# Altium schematic symbol library IMR_LIB_SCH_R2.SchLib: 146 symbols (part 1 of 2)
Pins are listed as number, name and electrical type; pins without a type are passive.

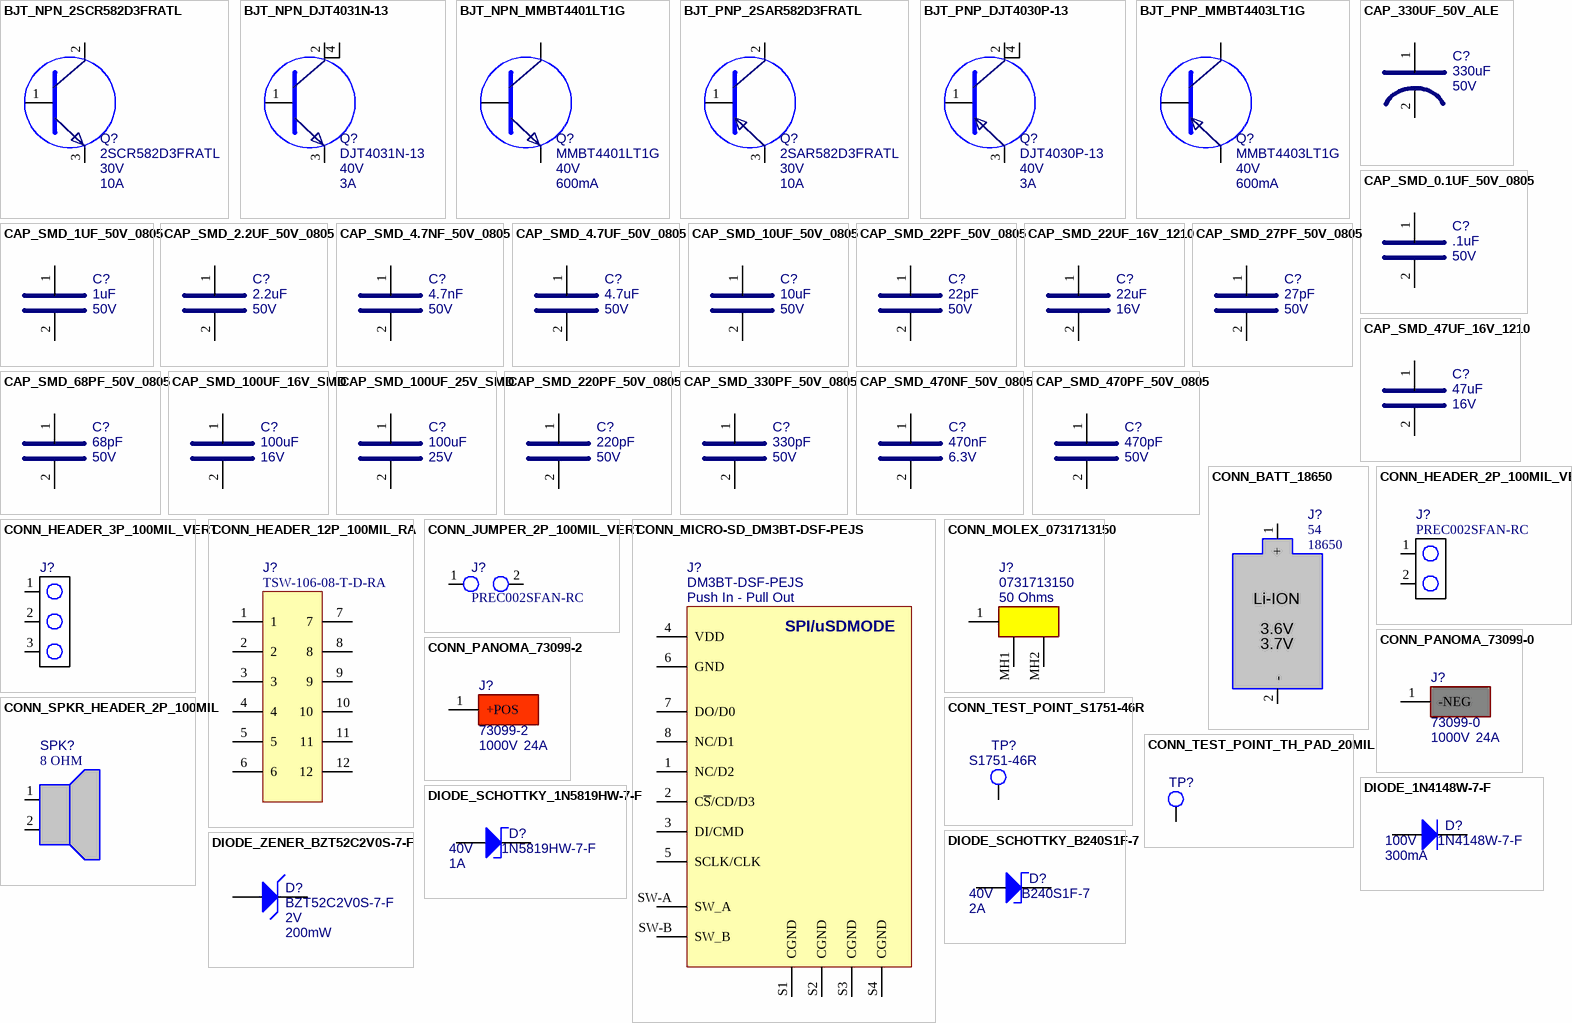
[diagram p0: symbols BJT_NPN_2SCR582D3FRATL to DIODE_ZENER_BZT52C2V0S-7-F]

## BJT_NPN_2SCR582D3FRATL
designator Q?, comment value 30V  Current: 10A  (hidden comment: 2SCR582D3FRATL)
TRANS NPN 30V 10A TO-252; MFG: Rohm Semiconductor; Case/Package: TO-252; Supplier 1: DigiKey; Supplier Part Number 1: 846-2SCR582D3FRATLCT-ND; Unit Price: 1.76; MFG_PN: 2SCR582D3FRATL
footprint TO-252 (TO-252, TO-252-3, DPAK)
pins: 1 B, 2 C, 3 E

## BJT_NPN_DJT4031N-13
designator Q?, comment value 40V  Current: 3A  (hidden comment: DJT4031N-13)
TRANS NPN 40V 3A SOT223; MFG: Diodes Inc; Case/Package: SOT223; Supplier 1: DigiKey; Supplier Part Number 1: DJT4031NDICT-ND; Unit Price: .76; MFG_PN: DJT4031N-13
footprint SOT223
pins: 1 B, 2 C, 3 E, 4 C

## BJT_NPN_MMBT4401LT1G
designator Q?, comment value 40V  Current: 600mA  (hidden comment: MMBT4401LT1G)
TRANS NPN 40V 0.6A SOT23-3; MFG: On Semiconductor; Case/Package: SOT-23; Supplier 1: DigiKey; Supplier Part Number 1: MMBT4401LT1GOSCT-ND; Unit Price: .13; MFG_PN: MMBT4401LT1G
footprint SOT-23 (SOT23-3)
pins: 1 B, 2 E, 3 C

## BJT_PNP_2SAR582D3FRATL
designator Q?, comment value 30V  Current: 10A  (hidden comment: 2SAR582D3FRATL)
TRANS PNP 30V 5.7A TO-252; MFG: Rohm Semiconductor; Case/Package: TO-252; Supplier 1: DigiKey; Supplier Part Number 1: 846-2SAR582D3FRATLCT-ND; Unit Price: 1.59; MFG_PN: 2SAR582D3FRATL
footprint TO-252 (TO-252, TO-252-3, DPAK)
pins: 1 B, 2 C, 3 E

## BJT_PNP_DJT4030P-13
designator Q?, comment value 40V  Current: 3A  (hidden comment: DJT4030P-13)
TRANS PNP 40V 3A SOT223; MFG: Diodes Inc; Case/Package: SOT-23; Supplier 1: DigiKey; Supplier Part Number 1: 31-DJT4030P-13CT-ND; Unit Price: .76; MFG_PN: DJT4030P-13
footprint SOT223
pins: 1 B, 2 C, 3 E, 4 C

## BJT_PNP_MMBT4403LT1G
designator Q?, comment value 40V  Current: 600mA  (hidden comment: MMBT4403LT1G)
TRANS PNP 40V 0.6A SOT23-3; MFG: On Semiconductor; Case/Package: SOT-23; Supplier 1: DigiKey; Supplier Part Number 1: MMBT4403LT1GOSCT-ND; Unit Price: .13; MFG_PN: MMBT4403LT1G
footprint SOT-23 (SOT23-3)
pins: 1 B, 2 E, 3 C

## CAP_330UF_50V_ALE
designator C?, comment value 330uF  Voltage: 50V  (hidden comment: Panasonic Electronic)
CAP ALE 330UF 20% 50V SMD; MFG: EEV-FK1H331Q; Case/Package: Radial SMD; MFG_PN: Panasonic Electronic; Supplier 1: DigiKey; Supplier Part Number 1: PCE3475CT-ND; Unit Price: 1.41
footprint PANASONIC_EEEFK0J332AQ (SMD 14.00mm Height)
pins: 1, 2

## CAP_SMD_0.1UF_50V_0805
designator C?, comment value .1uF  Voltage: 50V  (hidden comment: KGM21NR71H104KT)
CAP CER 0.1UF 50V X7R 0805; MFG: KYOCERA AVX; Case/Package: 0805; MFG_PN: KGM21NR71H104KT; Supplier 1: DigiKey; Supplier Part Number 1: 478-KGM21NR71H104KTCT-ND; Unit Price: .1
footprint CAP_0805
pins: 1, 2

## CAP_SMD_1UF_50V_0805
designator C?, comment value 1uF  Voltage: 50V  (hidden comment: 08055C105K4T2A)
CAP CER 1UF 50V X7R 0805; MFG: KYOCERA AVX; Case/Package: 0805; MFG_PN: 08055C105K4T2A; Supplier 1: DigiKey; Supplier Part Number 1: 478-KAM21KR71H105KUCT-ND; Unit Price: .27
footprint CAP_0805
pins: 1, 2

## CAP_SMD_2.2UF_50V_0805
designator C?, comment value 2.2uF  Voltage: 50V  (hidden comment: GRM219R61E225KA12J)
CAP CER 2.2UF 50V X5R 0805; MFG: Murata Electronics; Case/Package: 0805; MFG_PN: GRM219R61E225KA12J; Supplier 1: DigiKey; Supplier Part Number 1: 490-GRM219R61E225KA12JCT-ND; Unit Price: .38
footprint CAP_0805
pins: 1, 2

## CAP_SMD_4.7NF_50V_0805
designator C?, comment value 4.7nF  Voltage: 50V  (hidden comment: C0805C472K5RACAUTO)
CAP CER 4.7NF 50V X7R 0805; MFG: KEMET; Case/Package: 0805; MFG_PN: C0805C472K5RACAUTO; Supplier 1: DigiKey; Supplier Part Number 1: 399-6969-1-ND; Unit Price: .12
footprint CAP_0805
pins: 1, 2

## CAP_SMD_4.7UF_50V_0805
designator C?, comment value 4.7uF  Voltage: 50V  (hidden comment: GRM21BR61H475KE51L)
CAP CER 4.7UF 50V X5R 0805; MFG: Murata Electronics; Case/Package: 0805; MFG_PN: GRM21BR61H475KE51L; Supplier 1: DigiKey; Supplier Part Number 1: 490-10751-1-ND; Unit Price: .19
footprint CAP_0805
pins: 1, 2

## CAP_SMD_10UF_50V_0805
designator C?, comment value 10uF  Voltage: 50V  (hidden comment: GRM21BR61H106KE43L)
CAP CER 10UF 50V X5R 0805; MFG: Murata Electronics; Case/Package: 0805; MFG_PN: GRM21BR61H106KE43L; Supplier 1: DigiKey; Supplier Part Number 1: 490-18663-1-ND; Unit Price: .28
footprint CAP_0805
pins: 1, 2

## CAP_SMD_22PF_50V_0805
designator C?, comment value 22pF  Voltage: 50V  (hidden comment: C0805C220K5RACAUTO)
CAP CER 22PF 50V X7R 0805; MFG: KEMET; Case/Package: 0805; MFG_PN: C0805C220K5RACAUTO; Supplier 1: DigiKey; Supplier Part Number 1: 399-17627-1-ND; Unit Price: .24
footprint CAP_0805
pins: 1, 2

## CAP_SMD_22UF_16V_1210
designator C?, comment value 22uF  Voltage: 16V  (hidden comment: MSASE32MSB7226MPNB25)
CAP CER 22UF 16V X7R 1210; MFG: Taiyo Yuden; Case/Package: 1210; MFG_PN: MSASE32MSB7226MPNB25; Supplier 1: DigiKey; Supplier Part Number 1: 587-MSASE32MSB7226MPNB25CT-ND; Unit Price: .47
footprint CAP_1210 (CAP 1210)
pins: 1, 2

## CAP_SMD_27PF_50V_0805
designator C?, comment value 27pF  Voltage: 50V  (hidden comment: C0805C270J5GACTU)
CAP CER 27PF 50V C0G/NP0 0805; MFG: KEMET; Case/Package: 0805; MFG_PN: C0805C270J5GACTU; Supplier 1: DigiKey; Supplier Part Number 1: 399-C0805C270J5GACTUCT-ND; Unit Price: .11
footprint CAP_0805
pins: 1, 2

## CAP_SMD_47UF_16V_1210
designator C?, comment value 47uF  Voltage: 16V  (hidden comment: GRM32ER60J476ME20L)
CAP CER 47UF 50V X5R 1210; MFG: Murata Electronics; Case/Package: 1210; MFG_PN: GRM32ER60J476ME20L; Supplier 1: DigiKey; Supplier Part Number 1: 490-1887-1-ND; Unit Price: .28
footprint CAP_1210 (CAP 1210)
pins: 1, 2

## CAP_SMD_68PF_50V_0805
designator C?, comment value 68pF  Voltage: 50V  (hidden comment: C0805C680K5RACAUTO)
CAP CER 68PF 50V X7R 0805; MFG: KEMET; Case/Package: 0805; MFG_PN: C0805C680K5RACAUTO; Supplier 1: DigiKey; Supplier Part Number 1: 399-C0805C680K5RACAUTOCT-ND; Unit Price: .24
footprint CAP_0805
pins: 1, 2

## CAP_SMD_100UF_16V_SMD
designator C?, comment value 100uF  Voltage: 16V  (hidden comment: EMK325ABJ107MM-P)
CAP CER 100UF 16V X7S SMD; MFG: Taiyo Yuden; Case/Package: CAPC6153X670N; MFG_PN: EMK325ABJ107MM-P; Supplier 1: DigiKey; Supplier Part Number 1: 587-5426-1-ND; Unit Price: 1.92
footprint CAP_1210 (CAP 1210)
pins: 1, 2

## CAP_SMD_100UF_25V_SMD
designator C?, comment value 100uF  Voltage: 25V  (hidden comment: KCM55WC71E107MH13L)
CAP CER 100UF 25V X7S SMD; MFG: Murata Electronics; Case/Package: CAPC6153X670N; MFG_PN: KCM55WC71E107MH13L; Supplier 1: DigiKey; Supplier Part Number 1: 490-KCM55WC71E107MH13LCT-ND; Unit Price: 5.68
footprint CAPC6153X670N
pins: 1, 2

## CAP_SMD_220PF_50V_0805
designator C?, comment value 220pF  Voltage: 50V  (hidden comment: CC0805JRNPO9BN221)
CAP CER 220PF 50V COG/NP0 0805; MFG: Yageo; Type: COG, NP0; Tolerance: 5%; Case/Package: 0805; MFG_PN: CC0805JRNPO9BN221; Supplier 1: DigiKey; Supplier Part Number 1: 311-1115-1-ND; Unit Price: .11
footprint CAP_0805
pins: 1, 2

## CAP_SMD_330PF_50V_0805
designator C?, comment value 330pF  Voltage: 50V  (hidden comment: CC0805JRNPO9BN331)
CAP CER 3300PF 50V COG/NP0 0805; MFG: Yageo; Type: COG, NP0; Tolerance: 5%; Case/Package: 0805; MFG_PN: CC0805JRNPO9BN331; Supplier 1: DigiKey; Supplier Part Number 1: 311-1117-1-ND; Unit Price: .11
footprint CAP_0805
pins: 1, 2

## CAP_SMD_470NF_50V_0805
designator C?, comment value 470nF  Voltage: 6.3V  (hidden comment: GRM155R60J474KE19D)
CAP CER 0.47UF 6.3V X5R 0402; MFG: Murata Electronics; Case/Package: 0805; MFG_PN: GRM155R60J474KE19D; Supplier 1: DigiKey; Supplier Part Number 1: 490-3266-1-ND; Unit Price: .10
footprint CAP_0805
pins: 1, 2

## CAP_SMD_470PF_50V_0805
designator C?, comment value 470pF  Voltage: 50V  (hidden comment: CC0805JRNPO9BN471)
CAP CER 470PF 50V COG/NP0 0805; MFG: Yageo; Type: COG, NP0; Tolerance: 5%; Case/Package: 0805; MFG_PN: CC0805JRNPO9BN471; Supplier 1: DigiKey; Supplier Part Number 1: 311-1119-1-ND; Unit Price: .11
footprint CAP_0805
pins: 1, 2

## CONN_BATT_18650
designator J?, comment value 18650  (hidden comment: 54)
CONN HEADER VERT 2POS 2.54MM; MFG: Keystone Electronics; Note: This is actually 2 connectors on PCB - priced as such but BOM will reflect only one; Case/Package: 18650 SINGLE CELL; Supplier 1: Digi-Key; Supplier Part Number 1: 36-54-ND; Unit Price: 1.10; MFG_PN: 54
footprint CONN_BATTERY_18650 (BATTERY CONNECTOR 18650 MADE OF 2X KEYSTONE 54)
pins: 1 +, 2 -
text: Li-ION; 3.6V; 3.7V

## CONN_HEADER_2P_100MIL_VERT
designator J?, comment PREC002SFAN-RC
CONN HEADER VERT 2POS 2.54MM; MFG: Sullins Connector Solutions; Case/Package: 2P_2.54MM; Supplier 1: Digi-Key; Supplier Part Number 1: S1212EC-02-ND; Value: *; Unit Price: .07; MFG_PN: PREC002SFAN-RC
footprint HDR_1X2_100MILL (SINGLE ROW 2 PIN HDR 2.54MM)
pins: 1, 2

## CONN_HEADER_3P_100MIL_VERT
designator J?, comment PREC003SFAN-RC  (value not drawn)
CONN HEADER VERT 3POS 2.54MM; MFG: Sullins Connector Solutions; Case/Package: 2P_2.54MM; MFG_PN: PREC003SFAN-RC; Supplier 1: Digi-Key; Supplier Part Number 1: S1212EC-03-ND; Value: *; Unit Price: .07
footprint HDR_1X3_100MILL (SINGLE ROW 3 PIN HDR 2.54MM)
pins: 1, 2, 3

## CONN_HEADER_12P_100MIL_RA
designator J?, comment TSW-106-08-T-D-RA
CONN HEADER R/A 12POS 2.54MM; MFG: Samtec Inc.; Case/Package: 2P_2.54MM; Supplier 1: Digi-Key; Supplier Part Number 1: SAM1049-06-ND; Unit Price: .93; MFG_PN: TSW-106-08-T-D-RA
footprint SAMTEC_TSW-106-08-T-D-RA
pins: 1, 2, 3, 4, 5, 6, 7, 8, 9, 10, 11, 12

## CONN_JUMPER_2P_100MIL_VERT
designator J?, comment PREC002SFAN-RC
CONN HEADER VERT 2POS 2.54MM; MFG: Sullins Connector Solutions; Case/Package: 2P_2.54MM; MFG_PN: PREC002SFAN-RC; Supplier 1: Digi-Key; Supplier Part Number 1: S1212EC-02-ND; Value: *; Unit Price: .07
footprint HDR_1X2_100MILL (SINGLE ROW 2 PIN HDR 2.54MM)
pins: 1, 2

## CONN_MICRO-SD_DM3BT-DSF-PEJS
designator J?, comment value Push In - Pull Out  (hidden comment: DM3BT-DSF-PEJS)
CONN MICRO SD CARD R/A SMD; MFG: Hirose Electric Co Ltd; Case/Package: DM3BT-DSF-PEJS; Supplier 1: DigiKey; Supplier Part Number 1: HR1942CT-ND; Unit Price: 2.30; MFG_PN: DM3BT-DSF-PEJS
footprint HRS_DM3BT-DSF-PEJS (HIROSE_DM3BT-DSF-PEJS)
pins: 1 NC/D2, 2 C~{S}/CD/D3, 3 DI/CMD, 4 VDD, 5 SCLK/CLK, 6 GND, 7 DO/D0, 8 NC/D1, S1 CGND, S2 CGND, S3 CGND, S4 CGND, SW-A SW_A, SW-B SW_B
text: SPI/uSDMODE

## CONN_MOLEX_0731713150
designator J?, comment value 50 Ohms  (hidden comment: 0731713150)
CONN BNC RCPT R/A 50 OHM PCB; MFG: Molex; Case/Package: 73099-2; Supplier 1: DigiKey; Supplier Part Number 1: WM20430-ND; Unit Price: 1.40; MFG_PN: 0731713150
footprint 731713150
pins: 1, MH1, MH2

## CONN_PANOMA_73099-0
designator J?, comment value 1000V  Current: 24A  (hidden comment: 73099-0)
CONN 4mm Banana Socket Right Angle PCB BLK; MFG: Pomona; Case/Package: 73099-0; Supplier 1: DigiKey; Supplier Part Number 1: 501-73099-0-ND; Unit Price: 10.39; MFG_PN: 73099-0
footprint Pomona_73099-0 (Connector Black 4mm Banana Socket Right Angle)
pins: 1 -NEG

## CONN_PANOMA_73099-2
designator J?, comment value 1000V  Current: 24A  (hidden comment: 73099-2)
CONN 4mm Banana Socket Right Angle PCB RED; MFG: Pomona; Case/Package: 73099-2; Supplier 1: DigiKey; Supplier Part Number 1: 501-73099-2-ND; Unit Price: 10.39; MFG_PN: 73099-2
footprint Pomona_73099-2 (Connector Red 4mm Banana Socket Right Angle)
pins: 1 +POS

## CONN_SPKR_HEADER_2P_100MIL
designator SPK?, comment value 8 OHM  (hidden comment: TBD)
CONN SPEAKER HEADER GENERIC VERT 2POS 2.54MM; Case/Package: 2P_2.54MM; MFG: GENERIC; Supplier 1: Digi-Key; Supplier Part Number 1: TBD; Unit Price: 1.00; MFG_PN: TBD
footprint HDR_1X2_100MILL (SINGLE ROW 2 PIN HDR 2.54MM)
pins: 1, 2

## CONN_TEST_POINT_S1751-46R
designator TP?, comment S1751-46R
PCB TEST POINT CONNECT; MFG: Harwin Inc; Case/Package: S1751; Supplier 1: Digi-Key; Supplier Part Number 1: 952-1478-1-ND; Value: *; Unit Price: .28; MFG_PN: S1751-46R
footprint HARWIN_S1751 (TEST POINT)
pins: 1

## CONN_TEST_POINT_TH_PAD_20MIL
designator TP?  (no BOM)
TEST POINT TH 20MIL HOLE
footprint TEST_POINT_20MIL_TH (HOLE_40MIL PAD 20MIL HOLE)
pins: 1

## DIODE_1N4148W-7-F
designator D?, comment value 100V  Current: 300mA  (hidden comment: 1N4148W-7-F)
RELAY REED SPDT 250MA 5V; MFG: Diodes Inc; Case/Package: SOD-123; Supplier 1: DigiKey; Supplier Part Number 1: 1N4148W-FDICT-ND; Unit Price: .16; MFG_PN: 1N4148W-7-F
footprint SOD123
pins: 1 A, 2 K

## DIODE_SCHOTTKY_1N5819HW-7-F
designator D?, comment value 40V  Current: 1A  (hidden comment: 1N5819HW-7-F)
DIODE SCHOTTKY 40V 1A SOD123; MFG: Diodes Inc; Case/Package: SOD-123; Supplier 1: DigiKey; Supplier Part Number 1: 1N5819HW-FDICT-ND; Unit Price: .25; MFG_PN: 1N5819HW-7-F
footprint SOD123
pins: 1 A, 2 K

## DIODE_SCHOTTKY_B240S1F-7
designator D?, comment value 40V  Current: 2A  (hidden comment: B240S1F-7)
DIODE SCHOTTKY 40V 2A SOD123F; MFG: Diodes Inc; Case/Package: SOD-123F; Supplier 1: DigiKey; Supplier Part Number 1: B240S1F-7DICT-ND; Unit Price: .25; MFG_PN: B240S1F-7
footprint SOD123F
pins: 1 A, 2 K

## DIODE_ZENER_BZT52C2V0S-7-F
designator D?, comment value 2V  Power: 200mW  (hidden comment: BZT52C2V0S-7-F)
DIODE ZENER 2V 200MW SOD323; MFG: Diodes Inc; Case/Package: SOD-123; Supplier 1: DigiKey; Supplier Part Number 1: BZT52C2V0S-7FDICT-ND; Unit Price: .15; MFG_PN: BZT52C2V0S-7-F
footprint SOD323
pins: 1 A, 2 K

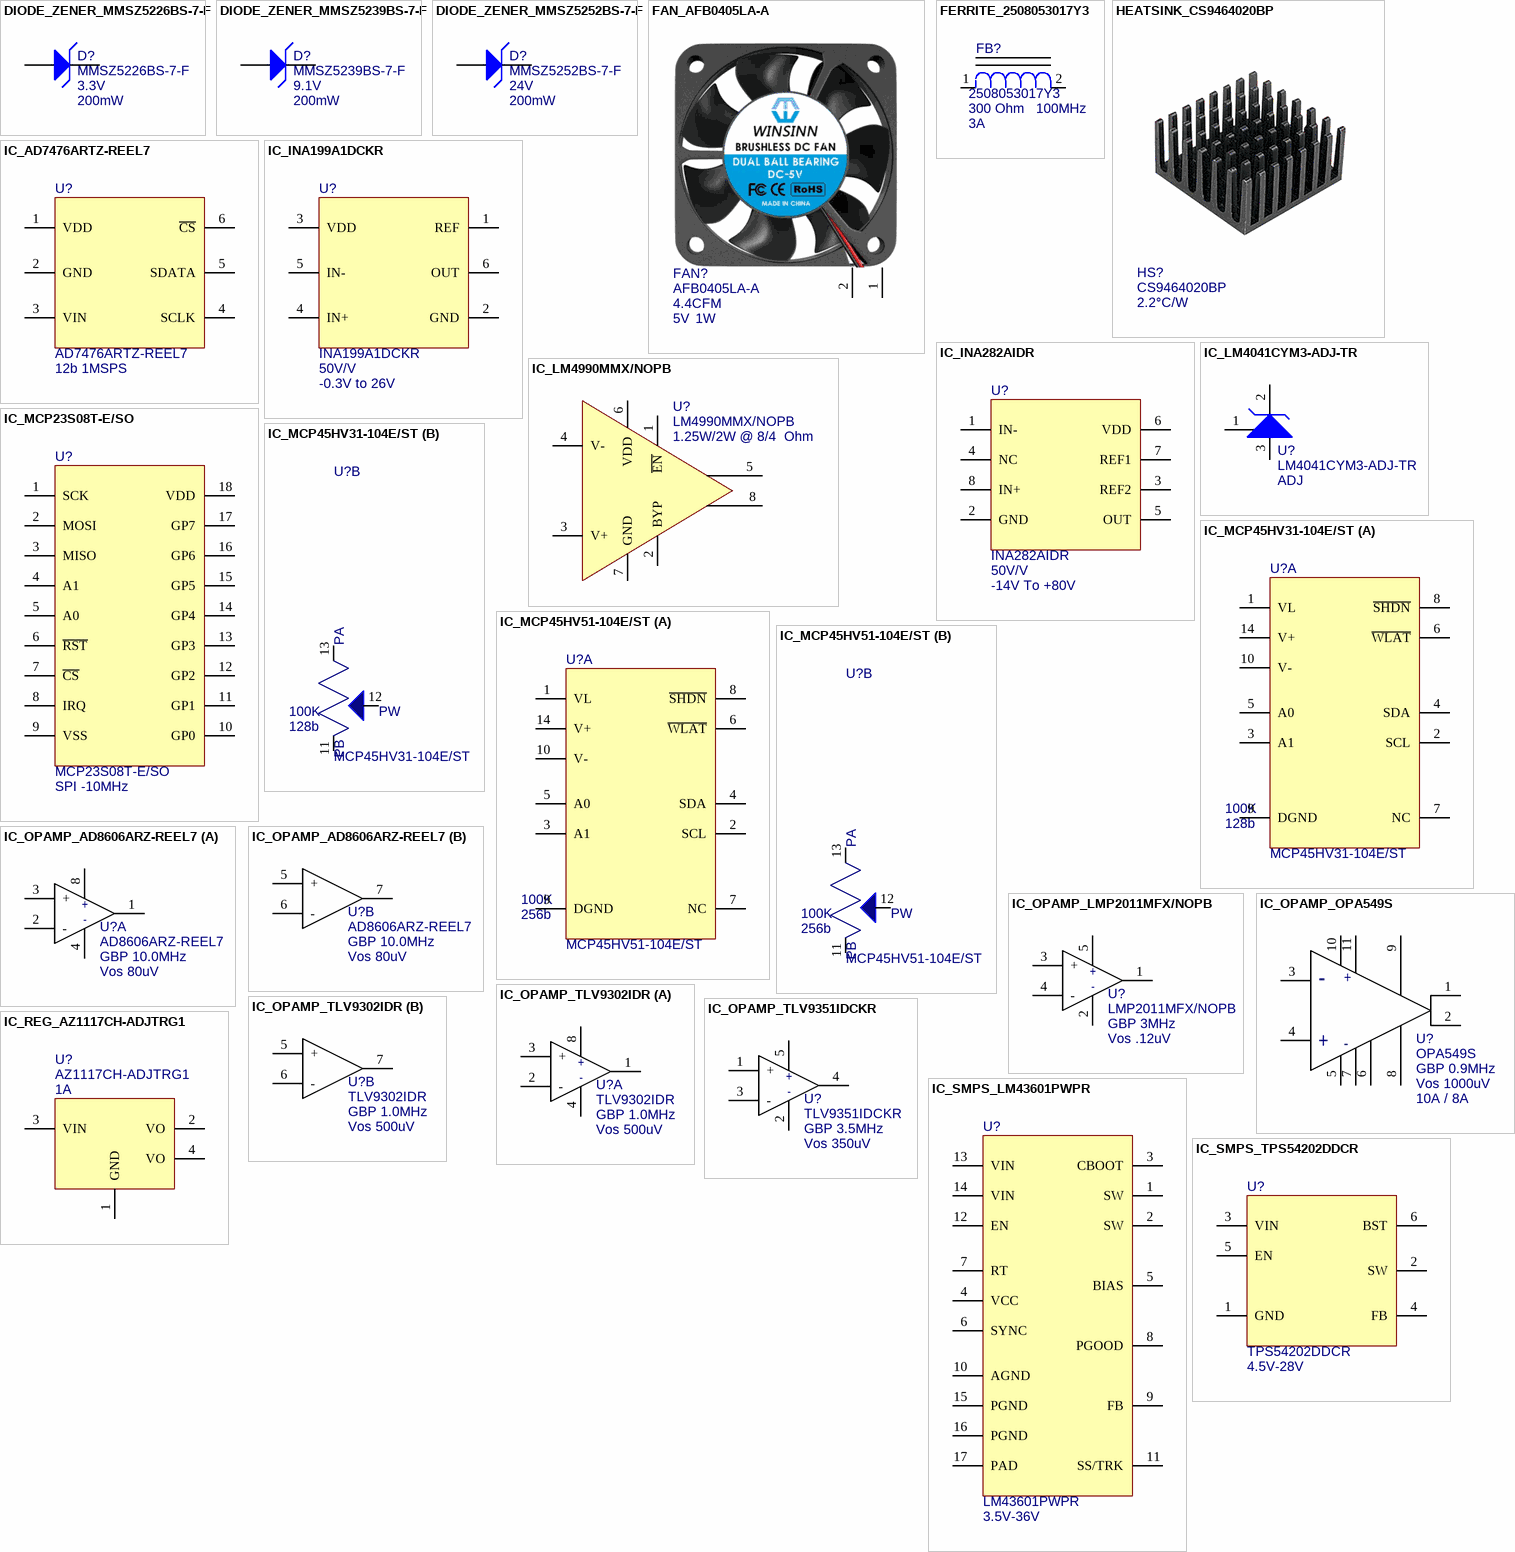
[diagram p1: symbols DIODE_ZENER_MMSZ5226BS-7-F to IC_SMPS_TPS54202DDCR]

## DIODE_ZENER_MMSZ5226BS-7-F
designator D?, comment value 3.3V  Power: 200mW  (hidden comment: MMSZ5226BS-7-F)
DIODE ZENER 3.3V 200MW SOD323; MFG: Diodes Inc; Case/Package: SOD-123; Supplier 1: DigiKey; Supplier Part Number 1: MMSZ5226BS-FDICT-ND; Unit Price: .15; MFG_PN: MMSZ5226BS-7-F
footprint SOD323
pins: 1 A, 2 K

## DIODE_ZENER_MMSZ5239BS-7-F
designator D?, comment value 9.1V  Power: 200mW  (hidden comment: MMSZ5239BS-7-F)
DIODE ZENER 9.1V 200MW SOD323; MFG: Diodes Inc; Case/Package: SOD-123; Supplier 1: DigiKey; Supplier Part Number 1: MMSZ5239BS-FDICT-ND; Unit Price: .18; MFG_PN: MMSZ5239BS-7-F
footprint SOD323
pins: 1 A, 2 K

## DIODE_ZENER_MMSZ5252BS-7-F
designator D?, comment value 24V  Power: 200mW  (hidden comment: MMSZ5252BS-7-F)
DIODE ZENER 24V 200MW SOD323; MFG: Diodes Inc; Case/Package: SOD-123; Supplier 1: DigiKey; Supplier Part Number 1: MMSZ5252BS-FDICT-ND; Unit Price: .12; MFG_PN: MMSZ5252BS-7-F
footprint SOD323
pins: 1 A, 2 K

## FAN_AFB0405LA-A
designator FAN?, comment Air Flow: 4.4CFM  Voltage: 5V  Power: 1W  (hidden comment: AFB0405LA-A)
FAN AXIAL 40X10MM BALL 5VDC WIRE; MFG: Delta Electronicis; Case/Package: 40x40x10mm; Supplier 1: DigiKey; Supplier Part Number 1: 603-2014-ND; Unit Price: 7.31; MFG_PN: AFB0405LA-A
footprint FAN_AFB0405LA-A (DELTA ELECTRONICS FAN PN: AFB0405LA-A)
pins: 1, 2

## FERRITE_2508053017Y3
designator FB?, comment value 300 Ohm  Frequency: 100MHz  Current: 3A  (hidden comment: 2508053017Y3)
FERRITE BEAD 300 OHM 0805 1LN; MFG: Fair-Rite; Case/Package: 0805; Supplier 1: DigiKey; Supplier Part Number 1: 1934-1474-1-ND; Unit Price: .10; MFG_PN: 2508053017Y3
footprint FERRITE_0805
pins: 1, 2

## HEATSINK_CS9464020BP
designator HS?, comment Thermal Resistance: 2.2°C/W  (hidden comment: CS9464020BP)
Heat Sink Aluminum Top Mount; MFG: Cooling Source; Case/Package: 40x40x20mm; Supplier 1: DigiKey; Supplier Part Number 1: 4165-CS9464020BP-ND; Unit Price: 3.41; MFG_PN: CS9464020BP
footprint HEATSINK_CS9464020BP (COOLING SOURCE HEAT SINK PN: CS9464020BP)

## IC_AD7476ARTZ-REEL7
designator U?, comment value 12b 1MSPS  (hidden comment: AD7476ARTZ-REEL7)
IC ADC 12BIT SAR SOT23-6; MFG: Analog Devices; Case/Package: SOT-23-6; Supplier 1: DigiKey; Supplier Part Number 1: AD7476ARTZ-REEL7CT-ND; Unit Price: 12.02; MFG_PN: AD7476ARTZ-REEL7
footprint SOT-23-6 (SOT-23-6 AKA TSOT-23-6)
pins: 1 VDD, 2 GND, 3 VIN, 4 SCLK, 5 SDATA, 6 ~{CS}

## IC_INA199A1DCKR
designator U?, comment value 50V/V  Common Mode: -0.3V to 26V  (hidden comment: INA199A1DCKR)
IC CURRENT SENSE 1.5% 50V/V SC70-6; MFG: Texas Instruments; Case/Package: SC-70-6; Supplier 1: DigiKey; Supplier Part Number 1: 296-27329-1-ND; Unit Price: .45; MFG_PN: INA199A1DCKR
footprint SC-70-6 (6-TSSOP, SC-88, SOT-363)
pins: 1 REF, 2 GND, 3 VDD, 4 IN+, 5 IN-, 6 OUT

## IC_INA282AIDR
designator U?, comment value 50V/V  Common Mode: -14V To +80V  (hidden comment: INA282AIDR)
IC CURRENT SENSE 0.4% 50V/V SOIC-8; MFG: Texas Instruments; Case/Package: SOIC-8; Supplier 1: DigiKey; Supplier Part Number 1: 296-27820-1-ND; Unit Price: 4.13; MFG_PN: INA282AIDR
footprint SOIC-8_54 (SOIC 8 PIN IC 5.4mm PIN TO PIN WIDTH)
pins: 1 IN-, 2 GND, 3 REF2, 4 NC, 5 OUT, 6 VDD, 7 REF1, 8 IN+

## IC_LM4041CYM3-ADJ-TR
designator U?, comment value ADJ  (hidden comment: LM4041CYM3-ADJ-TR)
IC VREF SHUNT ADJ 0.5% SOT23-3; MFG: Microchip; Case/Package: SOT-23; Supplier 1: DigiKey; Supplier Part Number 1: 576-1049-1-ND; Unit Price: .39; MFG_PN: LM4041CYM3-ADJ-TR
footprint SOT-23 (SOT23-3)
pins: 1 FB, 2 K, 3 A

## IC_LM4990MMX/NOPB
designator U?, comment value 1.25W/2W @ 8/4  Ohm  (hidden comment: LM4990MMX/NOPB)
IC AMP CLASS AB MONO 2W 8VSSOP; MFG: Texas Instruments; Case/Package: SC-70-6; Supplier 1: DigiKey; Supplier Part Number 1: 296-37579-1-ND; Unit Price: .45; MFG_PN: LM4990MMX/NOPB
footprint SOP65P490X110-8N (VSSOP-8)
pins: 1 ~{EN}, 2 BYP, 3 V+, 4 V-, 5 VO1, 6 VDD, 7 GND, 8 VO2

## IC_MCP23S08T-E/SO
designator U?, comment value SPI -10MHz  (hidden comment: MCP23S08T-E/SO)
IC IO XPNDR 10MHZ SPI 18SOIC; MFG: Microchip; Case/Package: SOIC-18-300; Supplier 1: DigiKey; Supplier Part Number 1: MCP23S08T-E/SOCT-ND; Unit Price: 1.54; MFG_PN: MCP23S08T-E/SO
footprint SOIC-18_300 (SOIC 18P 300MIL BODY WIDTH)
pins: 1 SCK, 2 MOSI, 3 MISO, 4 A1, 5 A0, 6 ~{RST}, 7 ~{CS}, 8 IRQ, 9 VSS, 10 GP0, 11 GP1, 12 GP2, 13 GP3, 14 GP4, 15 GP5, 16 GP6, 17 GP7, 18 VDD

## IC_MCP45HV31-104E/ST
designator U?, comment value 100K  TAP: 128b  (hidden comment: MCP45HV31-104E/ST)
IC DGT POT 100KOHM 128TP 14TSSOP; MFG: Microchip; Case/Package: TSSOP-14; Supplier 1: DigiKey; Supplier Part Number 1: MCP45HV31-104E/ST-ND; Unit Price: 1.82; MFG_PN: MCP45HV31-104E/ST
footprint TSSOP-14
part A pins: 1 VL, 2 SCL, 3 A1, 4 SDA, 5 A0, 6 ~{WLAT}, 7 NC, 8 ~{SHDN}, 9 DGND, 10 V-, 14 V+
part B pins: 11 PB0, 12 PW0, 13 PA
part B text: PW; PB

## IC_MCP45HV51-104E/ST
designator U?, comment value 100K  TAP: 256b  (hidden comment: MCP45HV51-104E/ST)
IC DGT POT 100KOHM 256TP 14TSSOP; MFG: Microchip; Case/Package: TSSOP-14; Supplier 1: DigiKey; Supplier Part Number 1: MCP45HV51-104E/ST-ND; Unit Price: 2.00; MFG_PN: MCP45HV51-104E/ST
footprint TSSOP-14
part A pins: 1 VL, 2 SCL, 3 A1, 4 SDA, 5 A0, 6 ~{WLAT}, 7 NC, 8 ~{SHDN}, 9 DGND, 10 V-, 14 V+
part B pins: 11 PB0, 12 PW0, 13 PA
part B text: PW; PB

## IC_OPAMP_AD8606ARZ-REEL7
designator U?, comment value GBP 10.0MHz  Vos: Vos 80uV  (hidden comment: AD8606ARZ-REEL7)
IC OPAMP GP 2 CIRCUIT 8SOIC; MFG: Analog Devices; Unit Price: 4.94; Package/Case: SOIC-8; Supplier 1: DigiKey; Supplier Part Number 1: AD8606ARZ-REEL7CT-ND; MFG_PN: AD8606ARZ-REEL7
footprint SOIC-8_54 (SOIC 8 PIN IC 5.4mm PIN TO PIN WIDTH)
part A pins: 1, 2 -, 3 +, 4, 8
part B pins: 5 +, 6 -, 7

## IC_OPAMP_LMP2011MFX/NOPB
designator U?, comment value GBP 3MHz  Vos: Vos .12uV  (hidden comment: LMP2011MFX/NOPB)
IC OPAMP GP 3MHZ .12uV CIRCUIT SOT23-5; MFG: Texas Instruments; Unit Price: 2.33; Package/Case: SOT-23-5; Supplier 1: DigiKey; Supplier Part Number 1: LMP2011MFX/NOPBCT-ND; MFG_PN: LMP2011MFX/NOPB
footprint SOT-23-5 (AKA SC-74A, SOT-753)
pins: 1, 2, 3 +, 4 -, 5

## IC_OPAMP_OPA549S
designator U?, comment value GBP 0.9MHz  Vos: Vos 1000uV  Peak / Contineous Current: 10A / 8A  (hidden comment: OPA549S)
IC OPAMP POWER 1 CIRC 11PWRPACK; MFG: Texas Instruments; Unit Price: 26.94; Package/Case: Power Package-11; Supplier 1: DigiKey; Supplier Part Number 1: OPA549S-ND; MFG_PN: OPA549S
footprint POWER_PACKAGE_11 (TI OPA549S Power Package-11)
pins: 1, 2, 3 -, 4 +, 5, 6, 7, 8, 9, 10, 11

## IC_OPAMP_TLV9302IDR
designator U?, comment value GBP 1.0MHz  Vos: Vos 500uV  (hidden comment: TLV9302IDR)
IC OPAMP GP 2 CIRCUIT 8SOIC; MFG: Texas Instruments; Unit Price: .66; Package/Case: SOIC-8; Supplier 1: DigiKey; Supplier Part Number 1: 296-53513-1-ND; MFG_PN: TLV9302IDR
footprint SOIC-8_49 (SOIC 8 PIN IC 4.9mm PIN TO PIN WIDTH)
part A pins: 1, 2 -, 3 +, 4, 8
part B pins: 5 +, 6 -, 7

## IC_OPAMP_TLV9351IDCKR
designator U?, comment value GBP 3.5MHz  Vos: Vos 350uV  (hidden comment: TLV9351IDCKR)
IC OPAMP GP 3.5MHZ 350uV C70-5; MFG: Texas Instruments; Unit Price: .49; Package/Case: SOT-353; Supplier 1: DigiKey; Supplier Part Number 1: 296-TLV9351IDCKRCT-ND; MFG_PN: TLV9351IDCKR
footprint SOT-353 (AKA SC-70-5, 5-TSSOP)
pins: 1 +, 2, 3 -, 4, 5

## IC_REG_AZ1117CH-ADJTRG1
designator U?, comment Current: 1A  (hidden comment: AZ1117CH-ADJTRG1)
IC REG BUCK ADJ 2A SOT23; MFG: Diodes Incorporated; Case/Package: SOT-223-3; Supplier 1: DigiKey; Supplier Part Number 1: AZ1117CH-ADJTRG1DICT-ND; Unit Price: .2; VALUE: ADJ; MFG_PN: AZ1117CH-ADJTRG1
footprint SOT223
pins: 1 GND, 2 VO, 3 VIN, 4 VO

## IC_SMPS_LM43601PWPR
designator U?, comment value 3.5V-36V  (hidden comment: LM43601PWPR)
IC REG BUCK ADJ 1A 16HTSSOP; MFG: Texas Instruments; Case/Package: 16HTSSOP; Supplier 1: DigiKey; Supplier Part Number 1: 296-40221-1-ND; Unit Price: 4.41; Current: 1A; MFG_PN: LM43601PWPR
footprint SOP65P640X120-17N
pins: 1 SW, 2 SW, 3 CBOOT, 4 VCC, 5 BIAS, 6 SYNC, 7 RT, 8 PGOOD, 9 FB, 10 AGND, 11 SS/TRK, 12 EN, 13 VIN, 14 VIN, 15 PGND, 16 PGND, 17 PAD

## IC_SMPS_TPS54202DDCR
designator U?, comment value 4.5V-28V  (hidden comment: TPS54202DDCR)
IC REG BUCK ADJ 2A SOT23; MFG: Texas Instruments; Case/Package: SOT23-6; Supplier 1: DigiKey; Supplier Part Number 1: 296-TPS54202DDCRCT-ND; Unit Price: .97; Current: 2A; MFG_PN: TPS54202DDCR
footprint SOT-23-6 (SOT-23-6 AKA TSOT-23-6)
pins: 1 GND, 2 SW, 3 VIN, 4 FB, 5 EN, 6 BST

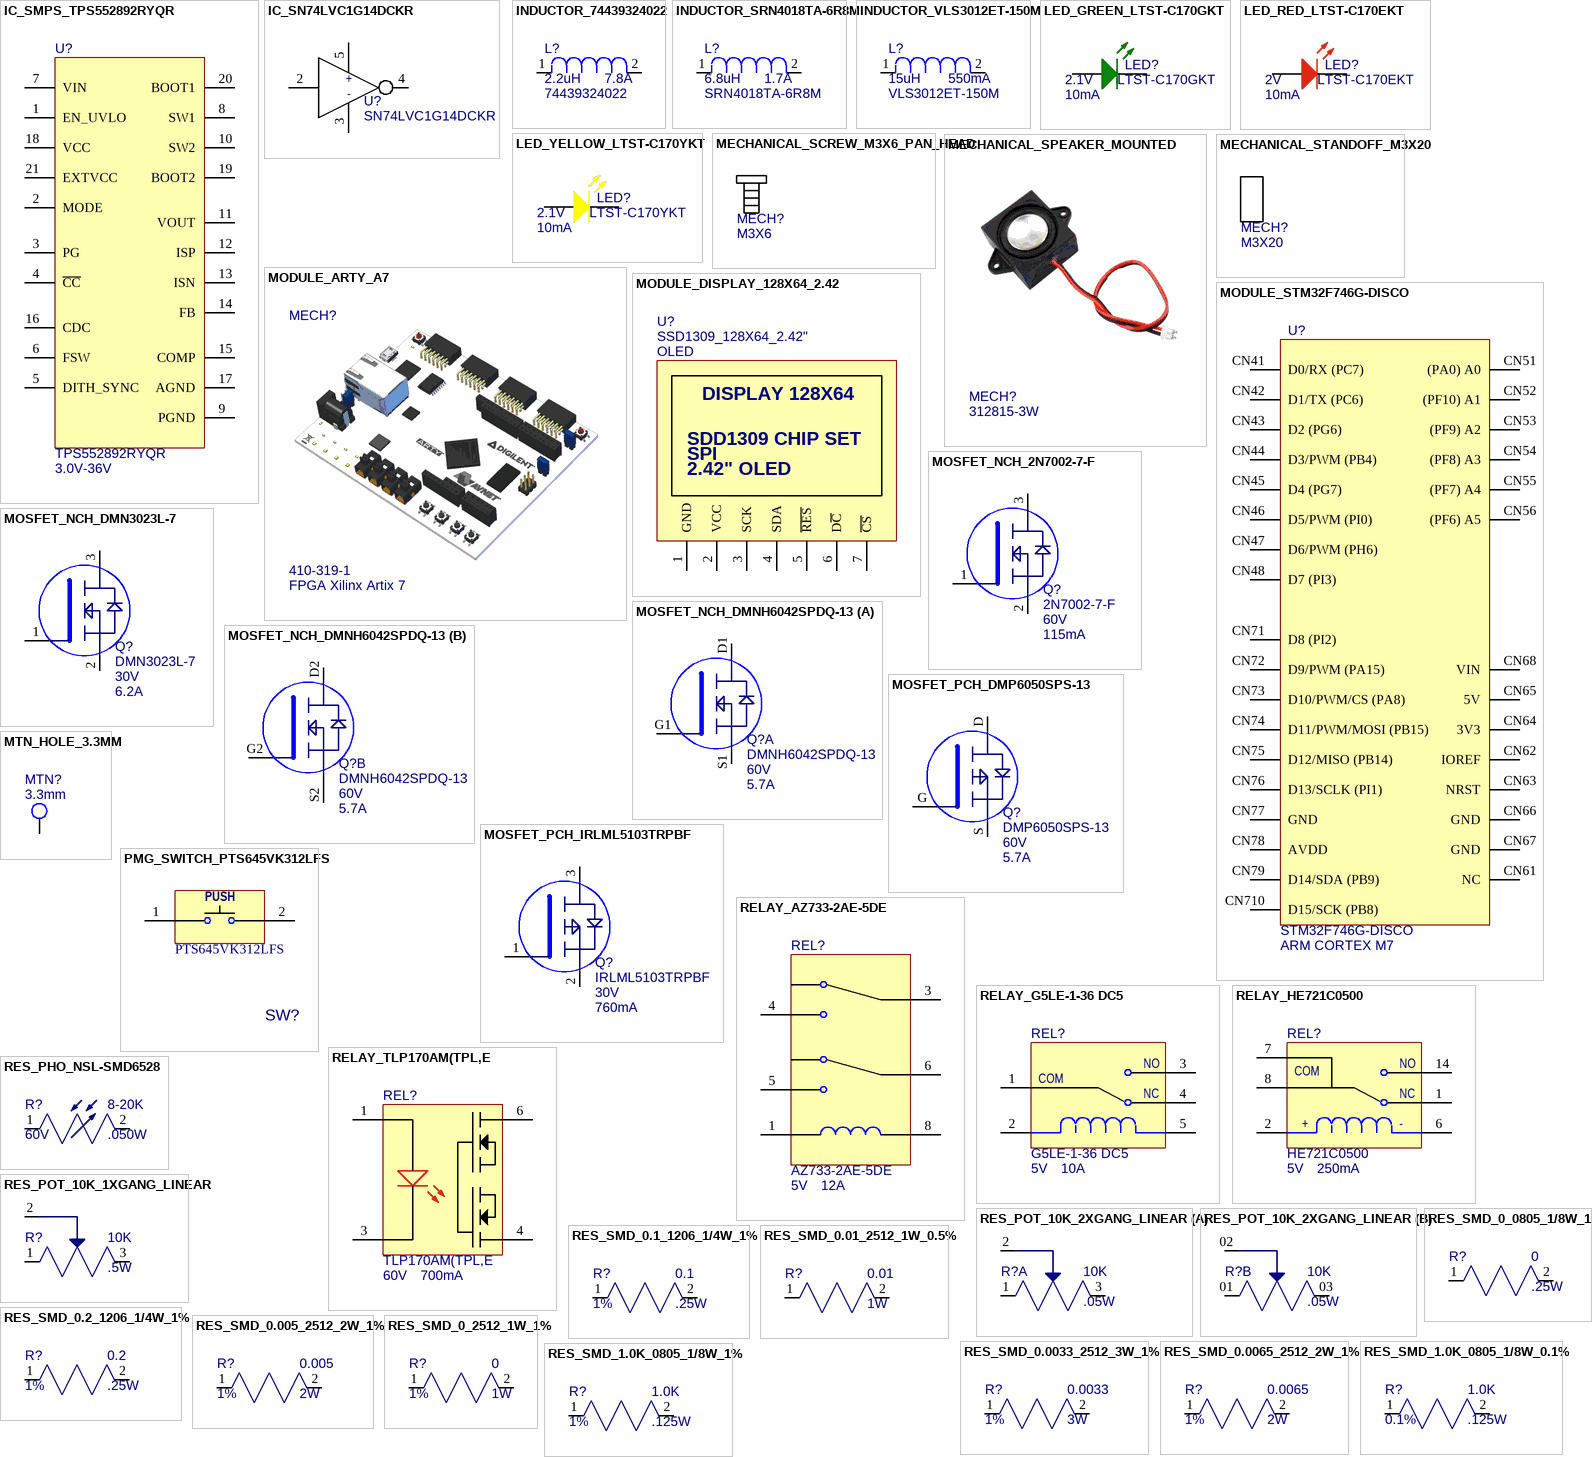
[diagram p2: symbols IC_SMPS_TPS552892RYQR to RES_SMD_1.0K_0805_1/8W_1%]

## IC_SMPS_TPS552892RYQR
designator U?, comment value 3.0V-36V  (hidden comment: TPS552892RYQR)
IC REG BUCK ADJ 1A 16HTSSOP; MFG: Texas Instruments; Current: 8A; Case/Package: VQFN; Supplier 1: DigiKey; Supplier Part Number 1: 296-TPS552892RYQRCT-ND; Unit Price: 6.42; MFG_PN: TPS552892RYQR
footprint CONV_TPS552892RYQR
pins: 1 EN_UVLO, 2 MODE, 3 PG, 4 ~{CC}, 5 DITH_SYNC, 6 FSW, 7 VIN, 8 SW1, 9 PGND, 10 SW2, 11 VOUT, 12 ISP, 13 ISN, 14 FB, 15 COMP, 16 CDC, 17 AGND, 18 VCC, 19 BOOT2, 20 BOOT1, 21 EXTVCC

## IC_SN74LVC1G14DCKR
designator U?, comment SN74LVC1G14DCKR
IC INVERT SCHMITT 1CH 1IN SC70-5; MFG: Texas Instruments; Unit Price: .10; Package/Case: SC70-5; Supplier 1: DigiKey; Supplier Part Number 1: 296-11608-1-ND; MFG_PN: SN74LVC1G14DCKR
footprint SOT-353 (AKA SC-70-5, 5-TSSOP)
pins: 2 A, 3, 4 Y, 5
text: +; -

## INDUCTOR_74439324022
designator L?, comment value 2.2uH  Current: 7.8A  (hidden comment: 74439324022)
POWER INDUCTOR 4030; 2.2UH; 7.80; MFG: Würth Elektronik; Tolerance: 20%; Case/Package: WE-XHMI; Supplier 1: DigiKey; Supplier Part Number 1: 732-74439324022CT-ND; Unit Price: 1.80; MFG_PN: 74439324022
footprint WE-XHMI_4030
pins: 1, 2

## INDUCTOR_SRN4018TA-6R8M
designator L?, comment value 6.8uH  Current: 1.7A  (hidden comment: SRN4018TA-6R8M)
FIXED IND 6.8UH 1.7A 98 MOHM SMD; MFG: Bourns Inc.; Tolerance: 20%; Case/Package: SRN4018TA; Supplier 1: DigiKey; Supplier Part Number 1: SRN4018TA-6R8MCT-ND; Unit Price: .48; MFG_PN: SRN4018TA-6R8M
footprint SRN4018TA (BOURNS SERIES SRN4018TA-6R8M)
pins: 1, 2

## INDUCTOR_VLS3012ET-150M
designator L?, comment value 15uH  Current: 550mA  (hidden comment: VLS3012ET-150M)
FIXED IND 15UH 550MA 516MOHM SMD; MFG: TDK Corporation; Tolerance: 20%; Case/Package: SRN4018TA; Supplier 1: DigiKey; Supplier Part Number 1: 445-6660-1-ND; Unit Price: .26; MFG_PN: VLS3012ET-150M
footprint IND_VLS3012ET-150M
pins: 1, 2

## LED_GREEN_LTST-C170GKT
designator LED?, comment value 2.1V  Current: 10mA  (hidden comment: LTST-C170GKT)
LED GREEN CLEAR SMD; MFG: Lite-On; Case/Package: 0805; Supplier 1: DigiKey; Supplier Part Number 1: 160-1179-1-ND; Unit Price: .10; MFG_PN: LTST-C170GKT
footprint LED_0805 (LED 0805)
pins: A, K

## LED_RED_LTST-C170EKT
designator LED?, comment value 2V  Current: 10mA  (hidden comment: LTST-C170EKT)
LED RED CLEAR SMD; MFG: Lite-On; Case/Package: 0805; Supplier 1: DigiKey; Supplier Part Number 1: 160-1178-1-ND; Unit Price: .18; MFG_PN: LTST-C170EKT
footprint LED_0805 (LED 0805)
pins: A, K

## LED_YELLOW_LTST-C170YKT
designator LED?, comment value 2.1V  Current: 10mA  (hidden comment: LTST-C170YKT)
LED YELLOW CLEAR SMD; MFG: Lite-On; Case/Package: 0805; Supplier 1: DigiKey; Supplier Part Number 1: 160-1175-1-ND; Unit Price: .15; MFG_PN: LTST-C170YKT
footprint LED_0805 (LED 0805)
pins: A, K

## MECHANICAL_SCREW_M3X6_PAN_HEAD
designator MECH?, comment Size: M3X6  (hidden comment: RM3X6MM 2701)
SCREW M3X6 PAN HEAD SS; MFG: APM Hexseal; Case/Package: SCREW_M3X6; Supplier 1: DigiKey; Supplier Part Number 1: 335-1156-ND; Unit Price: .58; MFG_PN: RM3X6MM 2701
footprint MECHANICAL_SCREW_M3X6 (M3X6 PAN HEAD SCREW - WIDTH 5.5mm)

## MECHANICAL_SPEAKER_MOUNTED
designator MECH?, comment 312815-3W
SPEAKER PANEL MOUNT; MFG: ARDUINO; Case/Package: 312815-3W_PCB; Supplier 1: ARDUINO; Supplier Part Number 1: 312815-3W; Unit Price: 2.50; MFG_PN: 312815-3W
footprint Model Name (Footprint not found)
footprint 312815-3W_PCB (Speaker Mounted (31x28x15)MM)

## MECHANICAL_STANDOFF_M3X20
designator MECH?, comment Size: M3X20  (hidden comment: 24407)
HEX STANDOFF M3 BRASS 20MM; MFG: Keystone Electronics; Case/Package: STANDOFF_M3X20; Supplier 1: DigiKey; Supplier Part Number 1: 36-24407-ND; Unit Price: 1.36; MFG_PN: 24407
footprint MECHANICAL_SPACER_F_F_M3X20 (M3X20 SPACER FEMALE TO FEMALE MAX WIDTH 5.2mm)

## MODULE_ARTY_A7
designator MECH?, comment value FPGA Xilinx Artix 7  (hidden comment: 410-319-1)
DEVELOPMENT BOARD FPGA XILINX A7; MFG: Digilent, Inc.; Case/Package: NA; Supplier 1: DigiKey; Supplier Part Number 1: 1286-1206-ND; Unit Price: 299.00; MFG_PN: 410-319-1
footprint ARTY_A7_DEV_BOARD (Digilent Arty A7 Development Board)

## MODULE_DISPLAY_128X64_2.42
designator U?, comment TYPE: OLED  (hidden comment: SSD1309_128X64_2.42")
DISPLAY 128X64 SSD1309 2.42" OLED WHITE; MFG: UNKNOWN; NOTES: This display is sold by several companies on Amazon - you can identify it by description and the back of the PCB - sellers: HiLetgo, Aceirmc; Case/Package: MODULE_DISPLAY_128X64_2.42; Supplier 1: Amazon; Supplier Part Number 1: SSD1309 2.42"; Unit Price: 16.99; Resolution: 128X64; MFG_PN: SSD1309_128X64_2.42"
footprint MODULE_DISPLAY_128X64_2.42 (DISPLAY)
pins: 1 GND, 2 VCC, 3 SCK, 4 SDA, 5 ~{RES}, 6 D~{C}, 7 ~{CS}
text: DISPLAY 128X64; SDD1309 CHIP SET; SPI; 2.42" OLED

## MODULE_STM32F746G-DISCO
designator U?, comment value ARM CORTEX M7  (hidden comment: STM32F746G-DISCO)
DISCOVERY STM32 F7 EVAL BRD; MFG: ST Microlectronics; Current: 2A; Case/Package: STM32F746G-DISCO; Supplier 1: DigiKey; Supplier Part Number 1: 497-15680-5-ND; Unit Price: 57.50; MFG_PN: STM32F746G-DISCO
footprint STM32F746G-DISCO (STM32F746G-DISCO MODULE)
pins: CN41 D0/RX (PC7), CN42 D1/TX (PC6), CN43 D2 (PG6), CN44 D3/PWM (PB4), CN45 D4 (PG7), CN46 D5/PWM (PI0), CN47 D6/PWM (PH6), CN48 D7 (PI3), CN51 (PA0) A0, CN52 (PF10) A1, CN53 (PF9) A2, CN54 (PF8) A3, CN55 (PF7) A4, CN56 (PF6) A5, CN61 NC, CN62 IOREF, CN63 NRST, CN64 3V3, CN65 5V, CN66 GND, CN67 GND, CN68 VIN, CN71 D8 (PI2), CN72 D9/PWM (PA15), CN73 D10/PWM/CS (PA8), CN74 D11/PWM/MOSI (PB15), CN75 D12/MISO (PB14), CN76 D13/SCLK (PI1), CN77 GND, CN78 AVDD, CN79 D14/SDA (PB9), CN710 D15/SCK (PB8)

## MOSFET_NCH_2N7002-7-F
designator Q?, comment value 60V  Current: 115mA  (hidden comment: 2N7002-7-F)
MOSFET N-CH 60V 115MA SOT23-3; MFG: Diodes Inc; Case/Package: SOT-23; Supplier 1: DigiKey; Supplier Part Number 1: 2N7002-FDICT-ND; Unit Price: .20; MFG_PN: 2N7002-7-F
footprint SOT-23 (SOT23-3)
pins: 1 B, 2 E, 3 C

## MOSFET_NCH_DMN3023L-7
designator Q?, comment value 30V  Current: 6.2A  (hidden comment: DMN3023L-7)
MOSFET N-CH 30V 6.2A SOT23-3; MFG: Diodes Inc; Case/Package: SOT-23; Supplier 1: DigiKey; Supplier Part Number 1: DMN3023L-7DICT-ND; Unit Price: .48; MFG_PN: DMN3023L-7
footprint SOT-23 (SOT23-3)
pins: 1 B, 2 E, 3 C

## MOSFET_NCH_DMNH6042SPDQ-13
designator Q?, comment value 60V  Current: 5.7A  (hidden comment: DMNH6042SPDQ-13)
MOSFET NCH 60V 5.7A POWERDI; MFG: Diodes Inc; Case/Package: 8-PowerTDFN; Supplier 1: DigiKey; Supplier Part Number 1: DMNH6042SPDQ-13DICT-ND; Unit Price: 1.36; MFG_PN: DMNH6042SPDQ-13
footprint TRANS_DMP2002UPS-13
part A pins: D1 D, G1 G, S1 S
part B pins: D2 D, G2, S2 S

## MOSFET_PCH_DMP6050SPS-13
designator Q?, comment value 60V  Current: 5.7A  (hidden comment: DMP6050SPS-13)
MOSFET P-CH 60V 5.7A PWRDI5060-8; MFG: Diodes Inc; Case/Package: 8-PowerTDFN; Supplier 1: DigiKey; Supplier Part Number 1: DMP6050SPS-13DICT-ND; Unit Price: 1.07; MFG_PN: DMP6050SPS-13
footprint DMP3007SPS13
pins: D, G, S

## MOSFET_PCH_IRLML5103TRPBF
designator Q?, comment value 30V  Current: 760mA  (hidden comment: IRLML5103TRPBF)
MOSFET P-CH 30V 760MA SOT23; MFG: Infineon Technologies; Case/Package: 8-PowerTDFN; Supplier 1: DigiKey; Supplier Part Number 1: IRLML5103PBFCT-ND; Unit Price: .45; MFG_PN: IRLML5103TRPBF
footprint SOT-23 (SOT23-3)
pins: 1 G, 2 S, 3 D

## MTN_HOLE_3.3MM
designator MTN?  Hole Size: 3.3mm  (no BOM)
MOUNTING HOLE 3.3MM
footprint PMG_MT_HOLE_3.3MM (3.3MM IN D)
pins: 1

## PMG_SWITCH_PTS645VK312LFS
designator SW?, comment PTS645VK312LFS
SWITCH TACTILE SPST-NO 0.05A 12V; MFG: C&K; Case/Package: PTS645; Supplier 1: Digi-Key; Supplier Part Number 1: CKN10827-ND; VALUE: 12V; Unit Price: 0.27; MFG_PN: PTS645VK312LFS
footprint SW_PTS645 (SWITCH C&K PTS645 SERIES)
pins: 1 B, 2 B'
text: PUSH

## RELAY_AZ733-2AE-5DE
designator REL?, comment value 5V  Current: 12A  (hidden comment: AZ733-2AE-5DE)
RELAY REED SPDT 250MA 5V; MFG: American Zettler; Case/Package: AZ733; Supplier 1: DigiKey; Supplier Part Number 1: 3385-AZ733-2AE-5DE-nd; Unit Price: 2.18; MFG_PN: AZ733-2AE-5DE
footprint AZ733
pins: 1, 3, 4, 5, 6, 8

## RELAY_G5LE-1-36 DC5
designator REL?, comment value 5V  Current: 10A  (hidden comment: G5LE-1-36 DC5)
RELAY GEN PURPOSE SPDT 10A 5V; MFG: Omron; Case/Package: G5LE; Supplier 1: DigiKey; Supplier Part Number 1: G5LE-1-36DC5-ND; Unit Price: 1.24; Supplier: DigiKey; Manufacturer: Omron; MFG_PN: G5LE-1-36 DC5
footprint G5LE (Relay G5LE-1-36 DC5)
pins: 1 COM, 2, 3 NO, 4 NC, 5

## RELAY_HE721C0500
designator REL?, comment value 5V  Current: 250mA  (hidden comment: HE721C0500)
RELAY REED SPDT 250MA 5V; MFG: Littlefuse; Case/Package: HE700; Supplier 1: DigiKey; Supplier Part Number 1: HE112-ND; Unit Price: 3.77; MFG_PN: HE721C0500
footprint HE700 (Littlefuse HE700 series Reed relay)
pins: 1 NC, 2, 6, 7 COM, 8 COM, 14 NO
text: +; -

## RELAY_TLP170AM(TPL,E
designator REL?, comment value 60V  Current: 700mA  (hidden comment: TLP170AM(TPL,E)
SSR RELAY SPST-NO 700MA 0-60V; MFG: Toshiba; Case/Package: SOP-6; Supplier 1: DigiKey; Supplier Part Number 1: 264-TLP170AM(TPLECT-ND; Unit Price: 1.33; MFG_PN: TLP170AM(TPL,E
footprint SOP-6
pins: 1, 3, 4, 6

## RES_PHO_NSL-SMD6528
designator R?, comment value 8-20K  Power: .050W  Peak Voltage: 60V  (hidden comment: NSL-SMD6528)
SMD CDS PHOTORESISTOR, 8-20K; MFG: Advanced Photonix; Case/Package: 0805; MFG_PN: NSL-SMD6528; Supplier 1: DigiKey; Supplier Part Number 1: 209-NSL-SMD6528-ND; Unit Price: 1.54
footprint NSL-SMD6528 (Advanced Photonix NSL-SMD6528)
pins: 1, 2

## RES_POT_10K_1XGANG_LINEAR
designator R?, comment value 10K  Power: .5W  (hidden comment: 3386P-1-103TLF)
POT 10K OHM 1/20W LINEAR - 1X GANG; MFG: Bourns Inc.; Case/Package: PRS12R-4; MFG_PN: 3386P-1-103TLF; Supplier 1: DigiKey; Supplier Part Number 1: 3386P-103TLF-ND; Unit Price: 2.20
footprint BOURNS_3386F (RESISTOR POT 3386F SERIES)
pins: 1, 2, 3
1 alternate drawing of the same symbol

## RES_POT_10K_2XGANG_LINEAR
designator R?, comment value 10K  Power: .05W  (hidden comment: PRS12R-4115K-103B1)
POT 10K OHM 1/20W LINEAR - 2X GANG; MFG: Bourns Inc.; Case/Package: PRS12R-4; MFG_PN: PRS12R-4115K-103B1; Supplier 1: DigiKey; Supplier Part Number 1: 118-PRS12R-4115K-103B1-ND; Unit Price: 2.56
footprint PRS12R-4 (Dual gang vertical pot)
part A pins: 1, 2, 3
part B pins: 01, 02, 03 3
1 alternate drawing of the same symbol

## RES_SMD_0.1_1206_1/4W_1%
designator R?, comment value 0.1  Power: .25W  Tolerance: 1%  (hidden comment: RL1206FR-070R1L)
RES SMD 0.1 OHM 1% 1/4W 1206; MFG: Yageo; Case/Package: 1206; MFG_PN: RL1206FR-070R1L; Supplier 1: DigiKey; Supplier Part Number 1: 311-0.1LWCT-ND; Unit Price: .45
footprint RES_1206 (RESISTOR 1206)
pins: 1, 2

## RES_SMD_0.01_2512_1W_0.5%
designator R?, comment value 0.01  Power: 1W  (hidden comment: PE2512DKM070R01L)
RES SMD 0.01 OHM 0.5% 1W 2512; MFG: Yageo; Case/Package: 2512; MFG_PN: PE2512DKM070R01L; Supplier 1: DigiKey; Supplier Part Number 1: 13-PE2512DKM070R01LCT-ND; Unit Price: .76; Tolerance: 0.5%
footprint RES_2512 (RESISTOR 2512)
pins: 1, 2

## RES_SMD_0.2_1206_1/4W_1%
designator R?, comment value 0.2  Power: .25W  Tolerance: 1%  (hidden comment: RL1206FR-070R2L)
RES SMD 0.2 OHM 1% 1/4W 1206; MFG: Yageo; Case/Package: 1206; MFG_PN: RL1206FR-070R2L; Supplier 1: DigiKey; Supplier Part Number 1: 311-0.2LWCT-ND; Unit Price: .27
footprint RES_1206 (RESISTOR 1206)
pins: 1, 2

## RES_SMD_0.005_2512_2W_1%
designator R?, comment value 0.005  Tolerance: 1%  Power: 2W  (hidden comment: D1MPAB2512QR005FA-T4)
RES SMD 0.005 OHM 1% 2W 2512; MFG: Thin Film Technology Corp.; Case/Package: 2512; MFG_PN: D1MPAB2512QR005FA-T4; Supplier 1: DigiKey; Supplier Part Number 1: 4463-D1MPAB2512QR005FA-T4CT-ND; Unit Price: .51
footprint RES_2512 (RESISTOR 2512)
pins: 1, 2

## RES_SMD_0.0033_2512_3W_1%
designator R?, comment value 0.0033  Tolerance: 1%  Power: 3W  (hidden comment: WSLP25123L300FEA)
RES SMD 0.0033 OHM 1% 3W 2512; MFG: Vishay Dale; Case/Package: 2512; MFG_PN: WSLP25123L300FEA; Supplier 1: DigiKey; Supplier Part Number 1: 541-10151-1-ND; Unit Price: 1.23
footprint RES_2512 (RESISTOR 2512)
pins: 1, 2

## RES_SMD_0.0065_2512_2W_1%
designator R?, comment value 0.0065  Tolerance: 1%  Power: 2W  (hidden comment: WSL25126L500FEA18)
RES SMD 0.0065 OHM 1% 2W 2512; MFG: Vishay Dale; Case/Package: 2512; MFG_PN: WSL25126L500FEA18; Supplier 1: DigiKey; Supplier Part Number 1: 541-WSL25126L500FEA18CT-ND; Unit Price: 1.76
footprint RES_2512 (RESISTOR 2512)
pins: 1, 2

## RES_SMD_0_0805_1/8W_1%
designator R?, comment value 0  Power: .25W  (hidden comment: RC0805JR-070RL)
RES SMD 0 OHM 1% 1/8W 0805; MFG: Yageo; Case/Package: 0805; MFG_PN: RC0805JR-070RL; Supplier 1: DigiKey; Supplier Part Number 1: 311-0.0ARCT-ND; Unit Price: .1; Tolerance: 1%
footprint RES_0805
pins: 1, 2

## RES_SMD_0_2512_1W_1%
designator R?, comment value 0  Tolerance: 1%  Power: 1W  (hidden comment: RC2512JK-070RL)
RES SMD 0 OHM 1% 1W 2512; MFG: Yageo; Case/Package: 2512; MFG_PN: RC2512JK-070RL; Supplier 1: DigiKey; Supplier Part Number 1: YAG1232CT-ND; Unit Price: .2
footprint RES_2512 (RESISTOR 2512)
pins: 1, 2

## RES_SMD_1.0K_0805_1/8W_0.1%
designator R?, comment value 1.0K  Power: .125W  Tolerance: 0.1%  (hidden comment: RT0805BRD071KL)
RES SMD 1.0K OHM 0.1% 1/8W 0805; MFG: Yageo; Case/Package: 0805; MFG_PN: RT0805BRD071KL; Supplier 1: DigiKey; Supplier Part Number 1: YAG1820CT-ND; Unit Price: .16
footprint RES_0805
pins: 1, 2

## RES_SMD_1.0K_0805_1/8W_1%
designator R?, comment value 1.0K  Power: .125W  Tolerance: 1%  (hidden comment: RC0805FR-071KL)
RES SMD 1.0K OHM 1% 1/8W 0805; MFG: Yageo; Case/Package: 0805; MFG_PN: RC0805FR-071KL; Supplier 1: DigiKey; Supplier Part Number 1: 311-1.00KCRCT-ND; Unit Price: .1
footprint RES_0805
pins: 1, 2

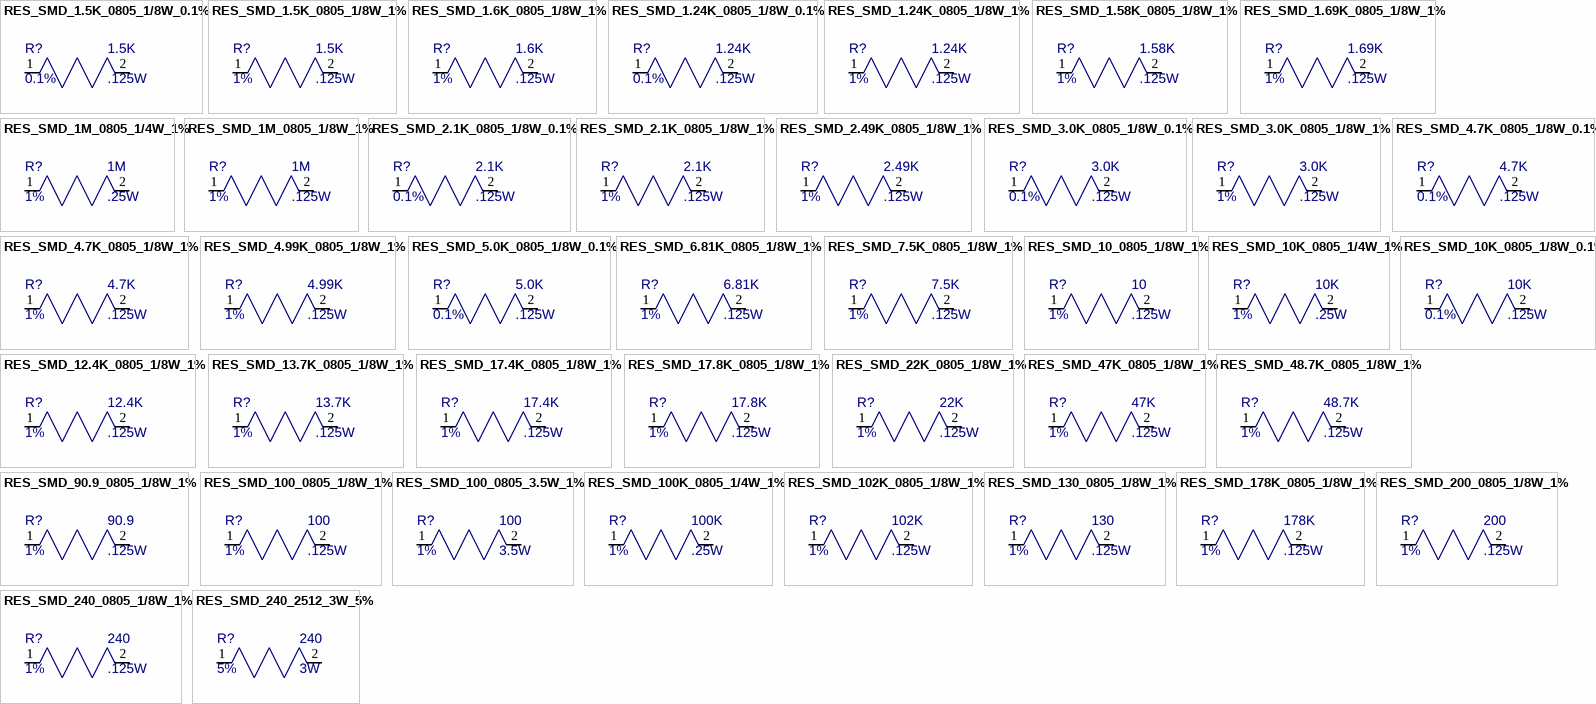
[diagram p3: symbols RES_SMD_1.5K_0805_1/8W_0.1% to RES_SMD_240_2512_3W_5%]

## RES_SMD_1.5K_0805_1/8W_0.1%
designator R?, comment value 1.5K  Power: .125W  Tolerance: 0.1%  (hidden comment: RT0805BRD071K5L)
RES SMD 1.5K OHM 0.1% 1/8W 0805; MFG: Yageo; Case/Package: 0805; MFG_PN: RT0805BRD071K5L; Supplier 1: DigiKey; Supplier Part Number 1: YAG1814CT-ND; Unit Price: .16
footprint RES_0805
pins: 1, 2

## RES_SMD_1.5K_0805_1/8W_1%
designator R?, comment value 1.5K  Power: .125W  Tolerance: 1%  (hidden comment: RC0805FR-071K5L)
RES SMD 1.5K OHM 1% 1/8W 0805; MFG: Yageo; Case/Package: 0805; MFG_PN: RC0805FR-071K5L; Supplier 1: DigiKey; Supplier Part Number 1: 311-1.50KCRCT-ND; Unit Price: .1
footprint RES_0805
pins: 1, 2

## RES_SMD_1.6K_0805_1/8W_1%
designator R?, comment value 1.6K  Power: .125W  Tolerance: 1%  (hidden comment: RC0805FR-071K6L)
RES SMD 1.6K OHM 1% 1/8W 0805; MFG: Yageo; Case/Package: 0805; MFG_PN: RC0805FR-071K6L; Supplier 1: DigiKey; Supplier Part Number 1: 311-1.60KCRCT-ND; Unit Price: .1
footprint RES_0805
pins: 1, 2

## RES_SMD_1.24K_0805_1/8W_0.1%
designator R?, comment value 1.24K  Power: .125W  Tolerance: 0.1%  (hidden comment: RT0805BRD071K24L)
RES SMD 1.24K OHM 0.1% 1/8W 0805; MFG: Yageo; Case/Package: 0805; MFG_PN: RT0805BRD071K24L; Supplier 1: DigiKey; Supplier Part Number 1: YAG1809CT-ND; Unit Price: .16
footprint RES_0805
pins: 1, 2

## RES_SMD_1.24K_0805_1/8W_1%
designator R?, comment value 1.24K  Power: .125W  Tolerance: 1%  (hidden comment: RC0805FR-071K24L)
RES SMD 1.24K OHM 1% 1/8W 0805; MFG: Yageo; Case/Package: 0805; MFG_PN: RC0805FR-071K24L; Supplier 1: DigiKey; Supplier Part Number 1: 311-1.24KCRCT-ND; Unit Price: .1
footprint RES_0805
pins: 1, 2

## RES_SMD_1.58K_0805_1/8W_1%
designator R?, comment value 1.58K  Power: .125W  Tolerance: 1%  (hidden comment: RC0805FR-071K58L)
RES SMD 1.58K OHM 1% 1/8W 0805; MFG: Yageo; Case/Package: 0805; MFG_PN: RC0805FR-071K58L; Supplier 1: DigiKey; Supplier Part Number 1: 311-1.58KCRCT-ND; Unit Price: .1
footprint RES_0805
pins: 1, 2

## RES_SMD_1.69K_0805_1/8W_1%
designator R?, comment value 1.69K  Power: .125W  Tolerance: 1%  (hidden comment: RC0805FR-071K69L)
RES SMD 1.69K OHM 1% 1/8W 0805; MFG: Yageo; Case/Package: 0805; MFG_PN: RC0805FR-071K69L; Supplier 1: DigiKey; Supplier Part Number 1: 311-1.69KCRCT-ND; Unit Price: .1
footprint RES_0805
pins: 1, 2

## RES_SMD_1M_0805_1/4W_1%
designator R?, comment value 1M  Power: .25W  Tolerance: 1%  (hidden comment: RC0805FR-7W1ML)
RES SMD 1K OHM 1% 1/4W 0805; MFG: Yageo; Case/Package: 0805; MFG_PN: RC0805FR-7W1ML; Supplier 1: DigiKey; Supplier Part Number 1: 13-RC0805FR-7W1MLCT-ND; Unit Price: .10
footprint RES_0805
pins: 1, 2

## RES_SMD_1M_0805_1/8W_1%
designator R?, comment value 1M  Power: .125W  Tolerance: 1%  (hidden comment: RC0805FR-071ML)
RES SMD 1M OHM 1% 1/8W 0805; MFG: Yageo; Case/Package: 0805; MFG_PN: RC0805FR-071ML; Supplier 1: DigiKey; Supplier Part Number 1: 311-1.00MCRCT-ND; Unit Price: .12
footprint RES_0805
pins: 1, 2

## RES_SMD_2.1K_0805_1/8W_0.1%
designator R?, comment value 2.1K  Power: .125W  Tolerance: 0.1%  (hidden comment: RT0805BRD072K1L)
RES SMD 2.1K OHM 0.1% 1/8W 0805; MFG: Yageo; Case/Package: 0805; MFG_PN: RT0805BRD072K1L; Supplier 1: DigiKey; Supplier Part Number 1: YAG1852CT-ND; Unit Price: .16
footprint RES_0805
pins: 1, 2

## RES_SMD_2.1K_0805_1/8W_1%
designator R?, comment value 2.1K  Power: .125W  Tolerance: 1%  (hidden comment: RC0805FR-072K1L)
RES SMD 2.1K OHM 1% 1/8W 0805; MFG: Yageo; Case/Package: 0805; MFG_PN: RC0805FR-072K1L; Supplier 1: DigiKey; Supplier Part Number 1: 311-2.10KCRCT-ND; Unit Price: .1
footprint RES_0805
pins: 1, 2

## RES_SMD_2.49K_0805_1/8W_1%
designator R?, comment value 2.49K  Power: .125W  Tolerance: 1%  (hidden comment: RC0805FR-132K49L)
RES SMD 2.49K OHM 1% 1/8W 0805; MFG: Yageo; Case/Package: 0805; MFG_PN: RC0805FR-132K49L; Supplier 1: DigiKey; Supplier Part Number 1: 13-RC0805FR-132K49LCT-ND; Unit Price: .1
footprint RES_0805
pins: 1, 2

## RES_SMD_3.0K_0805_1/8W_0.1%
designator R?, comment value 3.0K  Power: .125W  Tolerance: 0.1%  (hidden comment: RT0805BRD073KL)
RES SMD 3.0K OHM 0.1% 1/8W 0805; MFG: Yageo; Case/Package: 0805; MFG_PN: RT0805BRD073KL; Supplier 1: DigiKey; Supplier Part Number 1: YAG1891CT-ND; Unit Price: 0.16
footprint RES_0805
pins: 1, 2

## RES_SMD_3.0K_0805_1/8W_1%
designator R?, comment value 3.0K  Power: .125W  Tolerance: 1%  (hidden comment: RC0805FR-133KL)
RES SMD 3.0K OHM 1% 1/8W 0805; MFG: Yageo; Case/Package: 0805; MFG_PN: RC0805FR-133KL; Supplier 1: DigiKey; Supplier Part Number 1: 13-RC0805FR-133KLCT-ND; Unit Price: .1
footprint RES_0805
pins: 1, 2

## RES_SMD_4.7K_0805_1/8W_0.1%
designator R?, comment value 4.7K  Power: .125W  Tolerance: 0.1%  (hidden comment: RT0805BRD074K7L)
RES SMD 4.7K OHM 0.1% 1/8W 0805; MFG: Yageo; Case/Package: 0805; MFG_PN: RT0805BRD074K7L; Supplier 1: DigiKey; Supplier Part Number 1: YAG1919CT-ND; Unit Price: .16
footprint RES_0805
pins: 1, 2

## RES_SMD_4.7K_0805_1/8W_1%
designator R?, comment value 4.7K  Power: .125W  Tolerance: 1%  (hidden comment: RC0805FR-134K7L)
RES SMD 4.7K OHM 1% 1/8W 0805; MFG: Yageo; Case/Package: 0805; MFG_PN: RC0805FR-134K7L; Supplier 1: DigiKey; Supplier Part Number 1: 13-RC0805FR-134K7LCT-ND; Unit Price: .1
footprint RES_0805
pins: 1, 2

## RES_SMD_4.99K_0805_1/8W_1%
designator R?, comment value 4.99K  Power: .125W  Tolerance: 1%  (hidden comment: RC0805FR-134K99L)
RES SMD 4.99K OHM 1% 1/8W 0805; MFG: Yageo; Case/Package: 0805; MFG_PN: RC0805FR-134K99L; Supplier 1: DigiKey; Supplier Part Number 1: 13-RC0805FR-134K99LCT-ND; Unit Price: .1
footprint RES_0805
pins: 1, 2

## RES_SMD_5.0K_0805_1/8W_0.1%
designator R?, comment value 5.0K  Power: .125W  Tolerance: 0.1%  (hidden comment: AT0805BRD075KL)
RES SMD 5.0K OHM 0.1% 1/8W 0805; MFG: Yageo; Case/Package: 0805; MFG_PN: AT0805BRD075KL; Supplier 1: DigiKey; Supplier Part Number 1: 13-AT0805BRD075KLCT-ND; Unit Price: .56
footprint RES_0805
pins: 1, 2

## RES_SMD_6.81K_0805_1/8W_1%
designator R?, comment value 6.81K  Power: .125W  Tolerance: 1%  (hidden comment: RC0805FR-076K81L)
RES SMD 6.81K OHM 1% 1/8W 0805; MFG: Yageo; Case/Package: 0805; MFG_PN: RC0805FR-076K81L; Supplier 1: DigiKey; Supplier Part Number 1: 311-6.81KCRCT-ND; Unit Price: .10
footprint RES_0805
pins: 1, 2

## RES_SMD_7.5K_0805_1/8W_1%
designator R?, comment value 7.5K  Power: .125W  Tolerance: 1%  (hidden comment: RC0805FR-077K5L)
RES SMD 7.5K OHM 1% 1/8W 0805; MFG: Yageo; Case/Package: 0805; MFG_PN: RC0805FR-077K5L; Supplier 1: DigiKey; Supplier Part Number 1: 311-7.50KCRCT-ND; Unit Price: .10
footprint RES_0805
pins: 1, 2

## RES_SMD_10_0805_1/8W_1%
designator R?, comment value 10  Power: .125W  Tolerance: 1%  (hidden comment: RC0805FR-1310RL)
RES SMD 10 OHM 1% 1/8W 0805; MFG: Yageo; Case/Package: 0805; MFG_PN: RC0805FR-1310RL; Supplier 1: DigiKey; Supplier Part Number 1: 13-RC0805FR-1310RLCT-ND; Unit Price: .1
footprint RES_0805
pins: 1, 2

## RES_SMD_10K_0805_1/4W_1%
designator R?, comment value 10K  Power: .25W  Tolerance: 1%  (hidden comment: RC0805FR-7W10KL)
RES SMD 10K OHM 1% 1/4W 0805; MFG: Yageo; Case/Package: 0805; MFG_PN: RC0805FR-7W10KL; Supplier 1: DigiKey; Supplier Part Number 1: 13-RC0805FR-7W10KLCT-ND; Unit Price: .10
footprint RES_0805
pins: 1, 2

## RES_SMD_10K_0805_1/8W_0.1%
designator R?, comment value 10K  Power: .125W  Tolerance: 0.1%  (hidden comment: RP0805BRD0710KL)
RES SMD 10K OHM 0.1% 1/8W 0805; MFG: Yageo; Case/Package: 0805; MFG_PN: RP0805BRD0710KL; Supplier 1: DigiKey; Supplier Part Number 1: 13-RP0805BRD0710KLCT-ND; Unit Price: .16
footprint RES_0805
pins: 1, 2

## RES_SMD_12.4K_0805_1/8W_1%
designator R?, comment value 12.4K  Power: .125W  Tolerance: 1%  (hidden comment: RC0805FR-0712K4L)
RES SMD 12.4K OHM 1% 1/8W 0805; MFG: Yageo; Case/Package: 0805; MFG_PN: RC0805FR-0712K4L; Supplier 1: DigiKey; Supplier Part Number 1: 311-12.4KCRCT-ND; Unit Price: .10
footprint RES_0805
pins: 1, 2

## RES_SMD_13.7K_0805_1/8W_1%
designator R?, comment value 13.7K  Power: .125W  Tolerance: 1%  (hidden comment: RC0805FR-0713K7L)
RES SMD 13.7K OHM 1% 1/8W 0805; MFG: Yageo; Case/Package: 0805; MFG_PN: RC0805FR-0713K7L; Supplier 1: DigiKey; Supplier Part Number 1: 311-13.7KCRCT-ND; Unit Price: .10
footprint RES_0805
pins: 1, 2

## RES_SMD_17.4K_0805_1/8W_1%
designator R?, comment value 17.4K  Power: .125W  Tolerance: 1%  (hidden comment: RC0805FR-0717K4L)
RES SMD 17.4K OHM 1% 1/8W 0805; MFG: Yageo; Case/Package: 0805; MFG_PN: RC0805FR-0717K4L; Supplier 1: DigiKey; Supplier Part Number 1: 311-17.4KCRCT-ND; Unit Price: .10
footprint RES_0805
pins: 1, 2

## RES_SMD_17.8K_0805_1/8W_1%
designator R?, comment value 17.8K  Power: .125W  Tolerance: 1%  (hidden comment: RC0805FR-0717K8L)
RES SMD 17.8K OHM 1% 1/8W 0805; MFG: Yageo; Case/Package: 0805; MFG_PN: RC0805FR-0717K8L; Supplier 1: DigiKey; Supplier Part Number 1: 311-17.8KCRCT-ND; Unit Price: .10
footprint RES_0805
pins: 1, 2

## RES_SMD_22K_0805_1/8W_1%
designator R?, comment value 22K  Power: .125W  Tolerance: 1%  (hidden comment: RC0805FR-0722KL)
RES SMD 22K OHM 1% 1/8W 0805; MFG: Yageo; Case/Package: 0805; MFG_PN: RC0805FR-0722KL; Supplier 1: DigiKey; Supplier Part Number 1: 311-22.0KCRCT-ND; Unit Price: .10
footprint RES_0805
pins: 1, 2

## RES_SMD_47K_0805_1/8W_1%
designator R?, comment value 47K  Power: .125W  Tolerance: 1%  (hidden comment: RC0805FR-1347KL)
RES SMD 47K OHM 1% 1/8W 0805; MFG: Yageo; Case/Package: 0805; MFG_PN: RC0805FR-1347KL; Supplier 1: DigiKey; Supplier Part Number 1: 13-RC0805FR-1347KLCT-ND; Unit Price: .1
footprint RES_0805
pins: 1, 2

## RES_SMD_48.7K_0805_1/8W_1%
designator R?, comment value 48.7K  Power: .125W  Tolerance: 1%  (hidden comment: RC0805FR-0748K7L)
RES SMD 48.7K OHM 1% 1/8W 0805; MFG: Yageo; Case/Package: 0805; MFG_PN: RC0805FR-0748K7L; Supplier 1: DigiKey; Supplier Part Number 1: 311-48.7KCRCT-ND; Unit Price: .1
footprint RES_0805
pins: 1, 2

## RES_SMD_90.9_0805_1/8W_1%
designator R?, comment value 90.9  Power: .125W  Tolerance: 1%  (hidden comment: RC0805FR-0790R9L)
RES SMD 90.9 OHM 1% 1/8W 0805; MFG: Yageo; Case/Package: 0805; MFG_PN: RC0805FR-0790R9L; Supplier 1: DigiKey; Supplier Part Number 1: 311-90.9CRCT-ND; Unit Price: .1
footprint RES_0805
pins: 1, 2

## RES_SMD_100_0805_1/8W_1%
designator R?, comment value 100  Power: .125W  Tolerance: 1%  (hidden comment: RC0805FR-07100RL)
RES SMD 100 OHM 1% 1/8W 0805; MFG: Yageo; Case/Package: 0805; MFG_PN: RC0805FR-07100RL; Supplier 1: DigiKey; Supplier Part Number 1: 311-100CRCT-ND; Unit Price: .1
footprint RES_0805
pins: 1, 2

## RES_SMD_100_0805_3.5W_1%
designator R?, comment value 100  Power: 3.5W  Tolerance: 1%  (hidden comment: ALN2512F100RE-1)
RES SMD 100 OHM 1% 3.5W 2512; MFG: Ohmite; Case/Package: 2512; MFG_PN: ALN2512F100RE-1; Supplier 1: DigiKey; Supplier Part Number 1: 273-ALN2512F100RE-1CT-ND; Unit Price: 1.50
footprint RES_2512 (RESISTOR 2512)
pins: 1, 2

## RES_SMD_100K_0805_1/4W_1%
designator R?, comment value 100K  Power: .25W  Tolerance: 1%  (hidden comment: RC0805FR-07100KL)
RES SMD 100K OHM 1% 1/4W 0805; MFG: Yageo; Case/Package: 0805; MFG_PN: RC0805FR-07100KL; Supplier 1: DigiKey; Supplier Part Number 1: 311-100KCRCT-ND; Unit Price: .13
footprint RES_0805
pins: 1, 2

## RES_SMD_102K_0805_1/8W_1%
designator R?, comment value 102K  Power: .125W  Tolerance: 1%  (hidden comment: RC0805FR-07102KL)
RES SMD 102K OHM 1% 1/8W 0805; MFG: Yageo; Case/Package: 0805; MFG_PN: RC0805FR-07102KL; Supplier 1: DigiKey; Supplier Part Number 1: 311-102KCRCT-ND; Unit Price: .10
footprint RES_0805
pins: 1, 2

## RES_SMD_130_0805_1/8W_1%
designator R?, comment value 130  Power: .125W  Tolerance: 1%  (hidden comment: RC0805FR-07130RL)
RES SMD 130 OHM 1% 1/8W 0805; MFG: Yageo; Case/Package: 0805; MFG_PN: RC0805FR-07130RL; Supplier 1: DigiKey; Supplier Part Number 1: 311-130CRCT-ND; Unit Price: .1
footprint RES_0805
pins: 1, 2

## RES_SMD_178K_0805_1/8W_1%
designator R?, comment value 178K  Power: .125W  Tolerance: 1%  (hidden comment: RC0805FR-07178KL)
RES SMD 178K OHM 1% 1/8W 0805; MFG: Yageo; Case/Package: 0805; MFG_PN: RC0805FR-07178KL; Supplier 1: DigiKey; Supplier Part Number 1: 311-178KCRCT-ND; Unit Price: .10
footprint RES_0805
pins: 1, 2

## RES_SMD_200_0805_1/8W_1%
designator R?, comment value 200  Power: .125W  Tolerance: 1%  (hidden comment: RC0805FR-07200RL)
RES SMD 200 OHM 1% 1/8W 0805; MFG: Yageo; Case/Package: 0805; MFG_PN: RC0805FR-07200RL; Supplier 1: DigiKey; Supplier Part Number 1: 311-200CRCT-ND; Unit Price: .1
footprint RES_0805
pins: 1, 2

## RES_SMD_240_0805_1/8W_1%
designator R?, comment value 240  Power: .125W  Tolerance: 1%  (hidden comment: RC0805FR-13240RL)
RES SMD 240 OHM 1% 1/8W 0805; MFG: Yageo; Case/Package: 0805; MFG_PN: RC0805FR-13240RL; Supplier 1: DigiKey; Supplier Part Number 1: 13-RC0805FR-13240RLCT-ND; Unit Price: .1
footprint RES_0805
pins: 1, 2

## RES_SMD_240_2512_3W_5%
designator R?, comment value 240  Power: 3W  Tolerance: 5%  (hidden comment: RC2512JK-07240RL)
RES 240 OHM 5% 3W 2512; MFG: Yageo; Case/Package: 2512; MFG_PN: RC2512JK-07240RL; Supplier 1: DigiKey; Supplier Part Number 1: 13-RC2512JK-07240RLCT-ND; Unit Price: .28
footprint RES_2512 (RESISTOR 2512)
pins: 1, 2

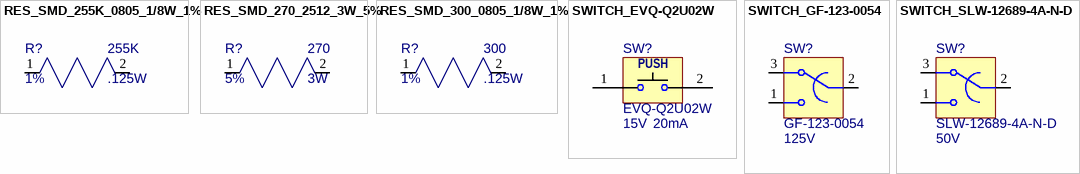
[diagram p4: symbols RES_SMD_255K_0805_1/8W_1% to SWITCH_SLW-12689-4A-N-D]

## RES_SMD_255K_0805_1/8W_1%
designator R?, comment value 255K  Power: .125W  Tolerance: 1%  (hidden comment: RC0805FR-07255KL)
RES SMD 255K OHM 1% 1/8W 0805; MFG: Yageo; Case/Package: 0805; MFG_PN: RC0805FR-07255KL; Supplier 1: DigiKey; Supplier Part Number 1: 311-255KCRCT-ND; Unit Price: .10
footprint RES_0805
pins: 1, 2

## RES_SMD_270_2512_3W_5%
designator R?, comment value 270  Power: 3W  Tolerance: 5%  (hidden comment: RC2512JK-07270RL)
RES 270 OHM 5% 1W 2512; MFG: Yageo; Case/Package: 2512; MFG_PN: RC2512JK-07270RL; Supplier 1: DigiKey; Supplier Part Number 1: 13-RC2512JK-07270RLCT-ND; Unit Price: .21
footprint RES_2512 (RESISTOR 2512)
pins: 1, 2

## RES_SMD_300_0805_1/8W_1%
designator R?, comment value 300  Power: .125W  Tolerance: 1%  (hidden comment: RC0805FR-07300RL)
RES SMD 300 OHM 1% 1/8W 0805; MFG: Yageo; Case/Package: 0805; MFG_PN: RC0805FR-07300RL; Supplier 1: DigiKey; Supplier Part Number 1: 311-300CRCT-ND; Unit Price: .1
footprint RES_0805
pins: 1, 2